# Altium footprint library Conn_Meigan_MG136HT.PcbLib: 1 footprints
Each footprint in its own frame and in the unit in brackets; x right, y up, seen from the top. Pads: shape width x height; smd on the part's side, far side on the other; paste and mask are expansions set on the pad; w line width, h text height; cw(c..) or ccw(c..) is an arc to the next point about the centre after c.
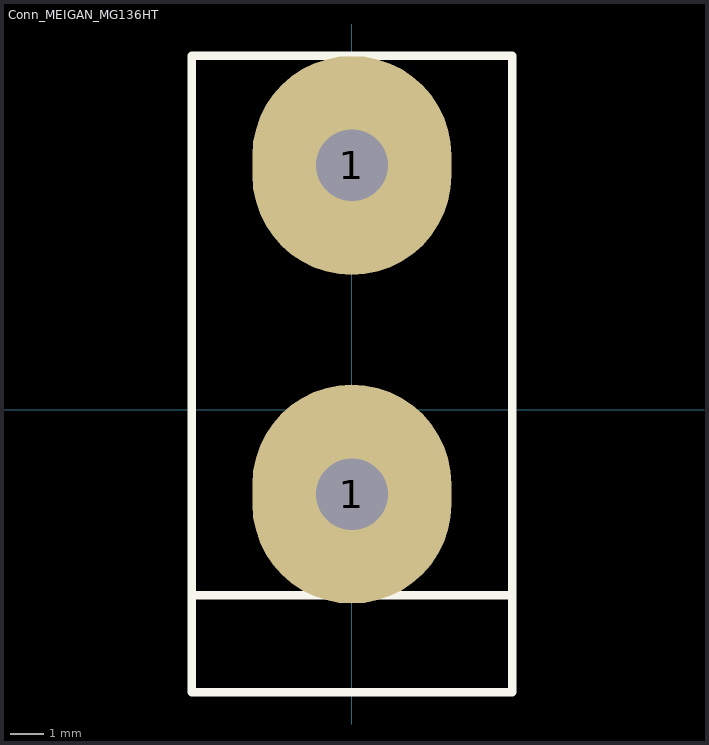
[diagram p0: the footprint, top view; thin cyan lines are the x and y axes]

## Conn_MEIGAN_MG136HT [mm]
pads (2):
  oval 6x6.6 hole 2.159: 1(0,-2.54) 1(0,7.366)
Top Overlay:
  lines w0.254: -4.826,10.668 4.826,10.668 ; -4.826,10.668 -4.826,-8.509 4.826,-8.509 4.826,10.668 ; -4.826,10.668 4.826,10.668 ; -4.826,10.668 -4.826,-5.588 4.826,-5.588 4.826,10.668
Bottom Overlay:
  lines w0.254: 4.826,10.668 4.951,-8.382 ; -4.826,-8.509 4.888,-8.509 4.888,10.668 -4.826,10.668 -4.826,-8.509
3D body "Meigan MG136HT 1000V 65A.STEP": height 30.95, standoff -4.3, extent -6,-8.552 5,9.948